# Altium schematic symbol library 691 211 720 0xx.SchLib: 2 symbols
Pins are listed as number, name and electrical type; pins without a type are passive.

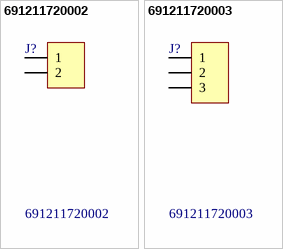
[diagram p0: symbols 691211720002 to 691211720003]

## 691211720002
designator J?
WR-TBL 45° Entry Modular with Rising Cage Clamp,Serie 211 - 5.00 mm - 15.5 mm Height; Manufacturer: Würth Elektronik eiSos GmbH; ComponentLink1 Description: Manufacturer; ComponentLink2 Description: Datasheet; NoPins: 2; Created Date: 25 Novenber 2013; partNo: 691211720002; ComponentLink1URL: http://www.we-online.com; ComponentLink2URL: http://katalog.we-online.de/em/datasheet/6912117200xx.pdf; Created by: Karrer Zheng
footprint 691211720002 (5,00mm - modular - green -45° entry with rising cage clamp - 02p)
pins: 1, 2

## 691211720003
designator J?
WR-TBL 45° Entry Modular with Rising Cage Clamp,Serie 211 - 5.00 mm - 15.5 mm Height; Manufacturer: Würth Elektronik eiSos GmbH; ComponentLink1 Description: Manufacturer; ComponentLink2 Description: Datasheet; NoPins: 3; Created Date: 25 Novenber 2013; partNo: 691211720003; ComponentLink1URL: http://www.we-online.com; ComponentLink2URL: http://katalog.we-online.de/em/datasheet/6912117200xx.pdf; Created by: Karrer Zheng
footprint 691211720003 (5,00mm - modular - green -45° entry with rising cage clamp - 03p)
pins: 1, 2, 3